# EAGLE library part 615006143221 (library InputOutputIO (rev19a))
WR-MJ Horizontal Shielded 6P6C Modular Jack Tab Up, 6 pins=>Code : Con_I-O_MJ-H_Shielded_Up_615006143221 <http://katalog.we-online.de/media/images/eican/Con_I-O_MJ-H_Shielded_Up_615006143221_pf2.jpg> Details see: http://katalog.we-online.de/en/em/MJ_HORIZONTAL_SHIELDED_6P6C_TAB_UP Created 2014-07-09, Karrer Zheng 2014 (C) Würth Elektronik
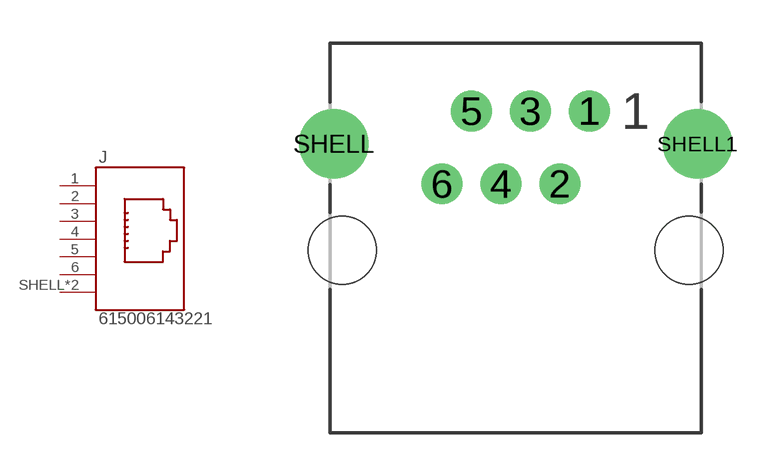
[diagram p99: symbol with the pads of 615006143221; footprint 615006143221]

Designator prefix J

## 615006143221  [615006143221]
1  6  pas
2  5  pas
3  4  pas
4  3  pas
5  2  pas
6  1  pas
SHELL  SHIELD  pas
SHELL1  SHIELD  pas

## Footprint 615006143221 (pad centres in mm)
WR-MJ Horizontal Shielded 6P6C Modular Jack Tab Up, 6 pins
drill 0.9: 1 2.55,1.26; 2 1.53,-1.26; 3 0.51,1.26; 4 -0.51,-1.26; 5 -1.53,1.26; 6 -2.55,-1.26
drill 1.6: SHELL -6.3,0.12; SHELL1 6.3,0.12
hole 2.36 at -6,-3.56
hole 2.36 at 6,-3.56